# EAGLE library part DP83848 (library dp83848)
National Semiconductor Ethernet PHY DP83848x (I/VYB/YB w/JTAG)
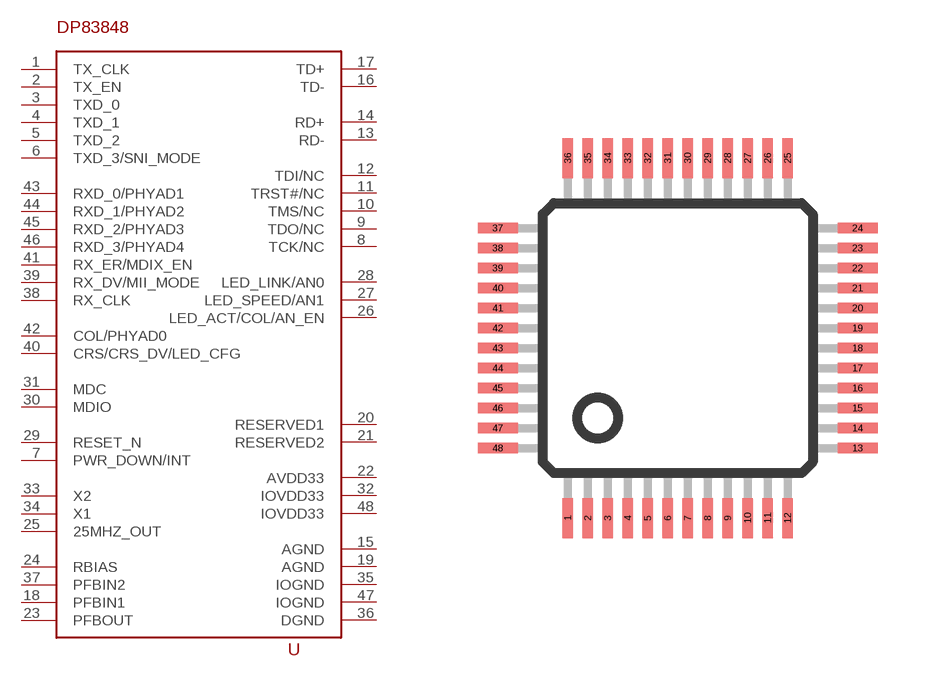
[diagram p0: symbol with the pads of TQFP48; footprint TQFP48]

Designator prefix U

## DP83848  [TQFP48]
1  TX_CLK
2  TX_EN
3  TXD_0
4  TXD_1
5  TXD_2
6  TXD_3/SNI_MODE
7  PWR_DOWN/INT
8  TCK/NC  nc
9  TDO/NC  nc
10  TMS/NC  nc
11  TRST#/NC  nc
12  TDI/NC  nc
13  RD-
14  RD+
15  AGND  pas
16  TD-
17  TD+
18  PFBIN1
19  AGND  pas
20  RESERVED1
21  RESERVED2
22  AVDD33  pwr
23  PFBOUT
24  RBIAS
25  25MHZ_OUT
26  LED_ACT/COL/AN_EN
27  LED_SPEED/AN1
28  LED_LINK/AN0
29  RESET_N
30  MDIO
31  MDC
32  IOVDD33  pwr
33  X2
34  X1
35  IOGND  pas
36  DGND  pas
37  PFBIN2
38  RX_CLK
39  RX_DV/MII_MODE
40  CRS/CRS_DV/LED_CFG
41  RX_ER/MDIX_EN
42  COL/PHYAD0
43  RXD_0/PHYAD1
44  RXD_1/PHYAD2
45  RXD_2/PHYAD3
46  RXD_3/PHYAD4
47  IOGND  pas
48  IOVDD33  pwr

## Footprint TQFP48 (pad centres in mm)
smd 0.254 x 1: 1 -2.75,-4.5; 2 -2.25,-4.5; 3 -1.75,-4.5; 4 -1.25,-4.5; 5 -0.75,-4.5; 6 -0.25,-4.5; 7 0.25,-4.5; 8 0.75,-4.5; 9 1.25,-4.5; 10 1.75,-4.5; 11 2.25,-4.5; 12 2.75,-4.5; 25 2.75,4.5; 26 2.25,4.5; 27 1.75,4.5; 28 1.25,4.5; 29 0.75,4.5; 30 0.25,4.5; 31 -0.25,4.5; 32 -0.75,4.5; 33 -1.25,4.5; 34 -1.75,4.5; 35 -2.25,4.5; 36 -2.75,4.5
smd 1 x 0.254: 13 4.5,-2.75; 14 4.5,-2.25; 15 4.5,-1.75; 16 4.5,-1.25; 17 4.5,-0.75; 18 4.5,-0.25; 19 4.5,0.25; 20 4.5,0.75; 21 4.5,1.25; 22 4.5,1.75; 23 4.5,2.25; 24 4.5,2.75; 37 -4.5,2.75; 38 -4.5,2.25; 39 -4.5,1.75; 40 -4.5,1.25; 41 -4.5,0.75; 42 -4.5,0.25; 43 -4.5,-0.25; 44 -4.5,-0.75; 45 -4.5,-1.25; 46 -4.5,-1.75; 47 -4.5,-2.25; 48 -4.5,-2.75